# Altium schematic symbol library Crystals.SchLib: 4 symbols
Pins are listed as number, name and electrical type; pins without a type are passive.

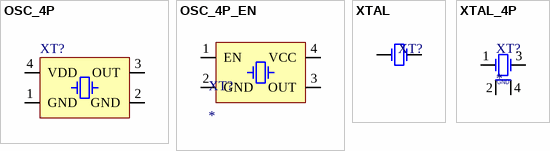
[diagram p0: symbols OSC_4P to XTAL_4P]

## OSC_4P
designator XT?
pins: 1 GND, 2 GND, 3 OUT, 4 VDD

## OSC_4P_EN
designator XT?
oscillator with enable
pins: 1 EN, 2 GND, 3 OUT, 4 VCC

## XTAL
designator XT?
Crystal
pins: 1 OSC1, 2 OSC2

## XTAL_4P
designator XT?
Crystal pin 2 and 4 GND
pins: 1 OSC1, 2, 3 OSC2, 4
text: GND